# EAGLE library part EG4208A (library UWAFT_Parts)
Slide Switches 4P2T SIDE OP PC MNT Source: Datasheet <https://www.e-switch.com/system/asset/product_line/data_sheet/119/EG.pdf>
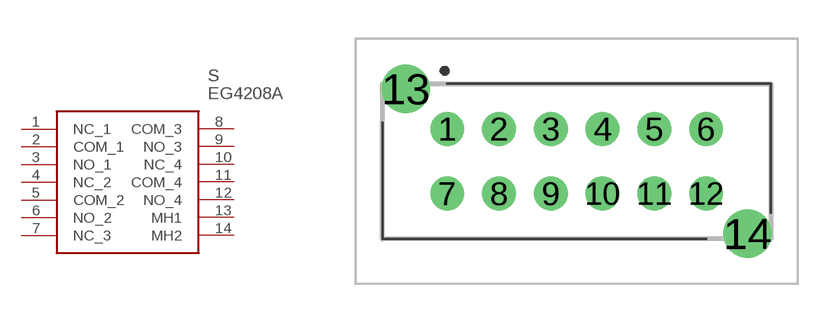
[diagram p2: symbol with the pads of EG4208A; footprint EG4208A]

Designator prefix S

## EG4208A (ARROW_PART_NUMBER: EG4208A; DESCRIPTION: Slide Switches 4P2T SIDE OP PC MNT; HEIGHT: 5mm; MANUFACTURER_NAME: E-Switch; MANUFACTURER_PART_NUMBER: EG4208A)  [EG4208A]
1  NC_1
2  COM_1
3  NO_1
4  NC_2
5  COM_2
6  NO_2
7  NC_3
8  COM_3
9  NO_3
10  NC_4
11  COM_4
12  NO_4
13  MH1
14  MH2

## Footprint EG4208A (pad centres in mm)
EG4208A
drill 0.8 pad 1.3: 1 -5,1.25; 2 -3,1.25; 3 -1,1.25; 4 1,1.25; 5 3,1.25; 6 5,1.25; 7 -5,-1.25; 8 -3,-1.25; 9 -1,-1.25; 10 1,-1.25; 11 3,-1.25; 12 5,-1.25
drill 1.25 pad 1.875: 13 -6.6,2.8; 14 6.6,-2.8